# EAGLE library part MOLEX_105017-0001 (library CASE-USB)
MOLEX 105017-0001 - USB 2.0, B micro-type connector, Horizontal Description: MOLEX 105017-0001 - USB 2.0, B micro-type connector, Horizontal version Links: Datasheet <https://docs-emea.rs-online.com/webdocs/15eb/0900766b815eb459.pdf>
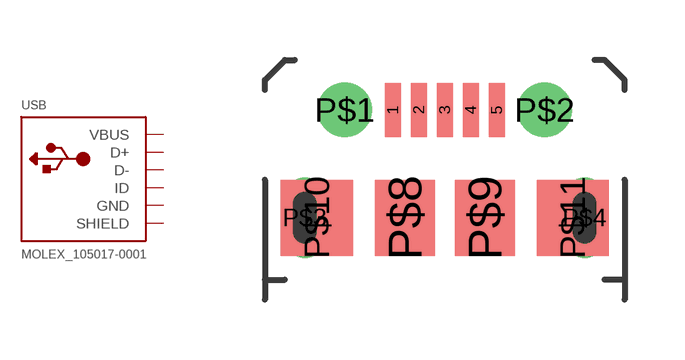
[diagram p0: symbol with the pads of MOLEX_105017-0001; footprint MOLEX_105017-0001]

Designator prefix USB

## MOLEX_105017-0001  [MOLEX_105017-0001]
1  VBUS  pwr
2  D-
3  D+
4  ID
5  GND  pwr
P$1  SHIELD  pwr
P$2  SHIELD  pwr
P$8  SHIELD  pwr
P$9  SHIELD  pwr
P$10  SHIELD  pwr
P$11  SHIELD  pwr

## Footprint MOLEX_105017-0001 (pad centres in mm)
MOLEX 48408-0003 Datasheet <https://www.molex.com/pdm_docs/sd/1050170001_sd.pdf>
smd 0.4 x 1.35: 1 -1.3,0; 2 -0.65,0; 3 0,0; 4 0.65,0; 5 1.3,0
drill 0.85: P$1 -2.5,0; P$2 2.5,0
drill 0.5 pad 0.9 long: P$3 -3.5,-2.7; P$4 3.5,-2.7
smd 1.5 x 1.9: P$8 -1,-2.7; P$9 1,-2.7
smd 1.8 x 1.9: P$10 -3.2,-2.7; P$11 3.2,-2.7